# EAGLE library part INT1200 (library Traficon)
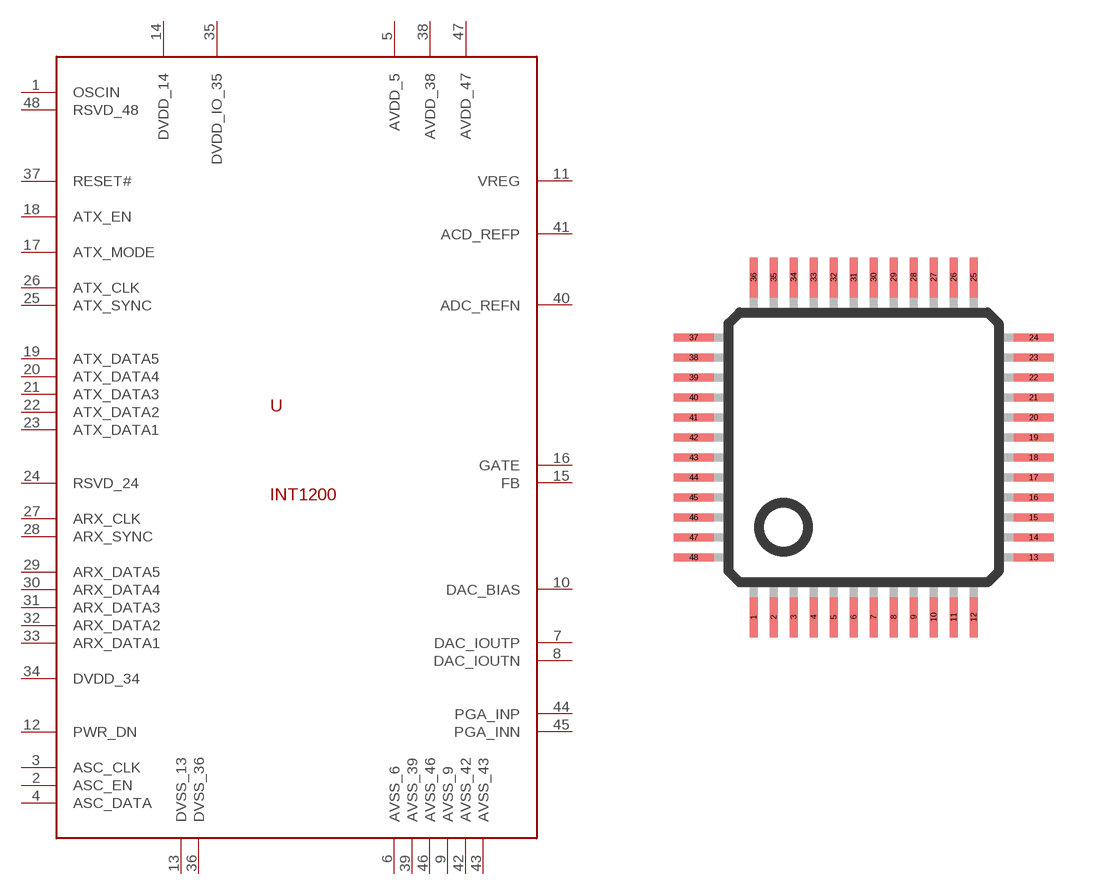
[diagram p227: symbol with the pads of LQFP48; footprint LQFP48]

Designator prefix U

## INT1200  [LQFP48]
1  OSCIN
2  ASC_EN
3  ASC_CLK
4  ASC_DATA
5  AVDD_5  pwr
6  AVSS_6  pwr
7  DAC_IOUTP
8  DAC_IOUTN
9  AVSS_9  pwr
10  DAC_BIAS
11  VREG
12  PWR_DN
13  DVSS_13  pwr
14  DVDD_14  pwr
15  FB
16  GATE
17  ATX_MODE
18  ATX_EN
19  ATX_DATA5
20  ATX_DATA4
21  ATX_DATA3
22  ATX_DATA2
23  ATX_DATA1
24  RSVD_24
25  ATX_SYNC
26  ATX_CLK
27  ARX_CLK
28  ARX_SYNC
29  ARX_DATA5
30  ARX_DATA4
31  ARX_DATA3
32  ARX_DATA2
33  ARX_DATA1
34  DVDD_34
35  DVDD_IO_35  pwr
36  DVSS_36  pwr
37  RESET#
38  AVDD_38  pwr
39  AVSS_39  pwr
40  ADC_REFN
41  ACD_REFP
42  AVSS_42  pwr
43  AVSS_43  pwr
44  PGA_INP
45  PGA_INN
46  AVSS_46  pwr
47  AVDD_47  pwr
48  RSVD_48

## Footprint LQFP48 (pad centres in mm)
48-pin plastic LQFP (FPT-48P-M26) www.fma.fujitsu.com/pdf/e713717.pdf
smd 0.2 x 1: 1 -2.75,-4.25; 2 -2.25,-4.25; 3 -1.75,-4.25; 4 -1.25,-4.25; 5 -0.75,-4.25; 6 -0.25,-4.25; 7 0.25,-4.25; 8 0.75,-4.25; 9 1.25,-4.25; 10 1.75,-4.25; 11 2.25,-4.25; 12 2.75,-4.25; 25 2.75,4.25; 26 2.25,4.25; 27 1.75,4.25; 28 1.25,4.25; 29 0.75,4.25; 30 0.25,4.25; 31 -0.25,4.25; 32 -0.75,4.25; 33 -1.25,4.25; 34 -1.75,4.25; 35 -2.25,4.25; 36 -2.75,4.25
smd 1 x 0.2: 13 4.25,-2.75; 14 4.25,-2.25; 15 4.25,-1.75; 16 4.25,-1.25; 17 4.25,-0.75; 18 4.25,-0.25; 19 4.25,0.25; 20 4.25,0.75; 21 4.25,1.25; 22 4.25,1.75; 23 4.25,2.25; 24 4.25,2.75; 37 -4.25,2.75; 38 -4.25,2.25; 39 -4.25,1.75; 40 -4.25,1.25; 41 -4.25,0.75; 42 -4.25,0.25; 43 -4.25,-0.25; 44 -4.25,-0.75; 45 -4.25,-1.25; 46 -4.25,-1.75; 47 -4.25,-2.25; 48 -4.25,-2.75